# Altium integrated library Actel Fusion.IntLib: 336 symbols (part 64 of 72)
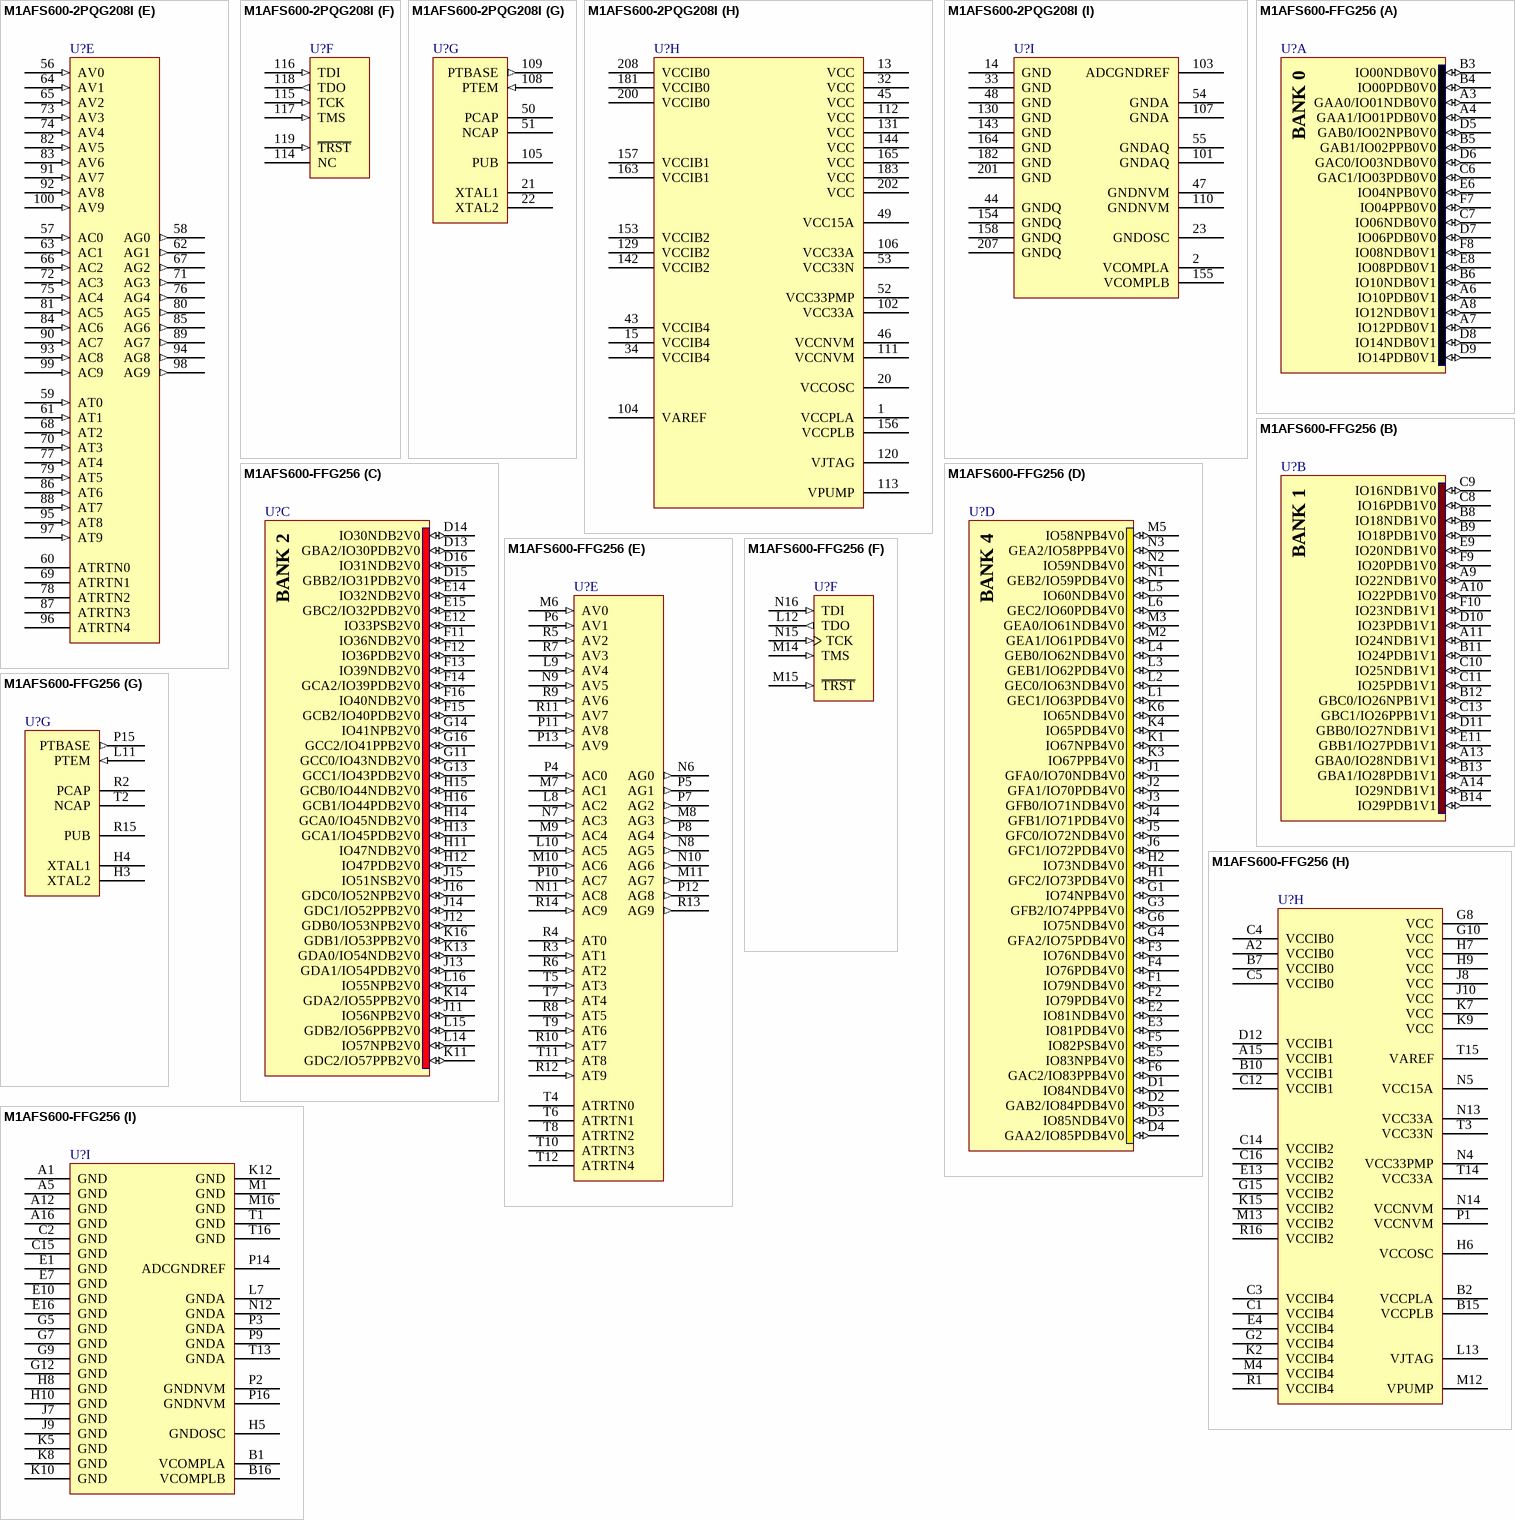
[diagram p431: symbols M1AFS600-2PQG208I to M1AFS600-FFG256]

## M1AFS600-FFG256
designator U?
ARM-Enabled 3.3V Fusion Mixed Signal Flash FPGA, 600,000 System Gates, 256-Pin FBGA, Commercial Grade; Published: 17-Aug-2007; LatestRevisionDate: 14-Dec-2007; LatestRevisionNote: Pin T14 renamed to "VCC33A".; DatasheetVersion: ver1.7, Oct-2008; PackageVersion: v11.0, Feb-2009; PackageReference: FG256; Publisher: Altium Limited; PackageDescription: 256-Ball Fine Pitch Plastic Ball Grid Array (FG256); Code_JEDEC: MO-192-DAF-1; ComponentLink1Description: Manufacturer Link; ComponentLink1URL: http://www.actel.com/products/fusion/; ComponentLink2Description: Datasheet; ComponentLink2URL: http://www.actel.com/documents/Fusion_DS.pdf; ComponentLink3Description: Packaging Specification; ComponentLink3URL: http://www.actel.com/documents/PckgMechDrwngs.pdf
footprint FG256 (BGA, 256-Leads, Body 17x17mm, Pitch 1mm)
3D model M1AFS600-FG256 (256-Ball Fine Pitch Plastic Ball Grid Array (FG256))
signal-integrity model M7AFS600_FG256 (Fusion)
part A pins: A3 GAA0/IO01NDB0V0 (io), A4 GAA1/IO01PDB0V0 (io), A6 IO10PDB0V1 (io), A7 IO12PDB0V1 (io), A8 IO12NDB0V1 (io), B3 IO00NDB0V0 (io), B4 IO00PDB0V0 (io), B5 GAB1/IO02PPB0V0 (io), B6 IO10NDB0V1 (io), C6 GAC1/IO03PDB0V0 (io), C7 IO06NDB0V0 (io), D5 GAB0/IO02NPB0V0 (io), D6 GAC0/IO03NDB0V0 (io), D7 IO06PDB0V0 (io), D8 IO14NDB0V1 (io), D9 IO14PDB0V1 (io), E6 IO04NPB0V0 (io), E8 IO08PDB0V1 (io), F7 IO04PPB0V0 (io), F8 IO08NDB0V1 (io)
part B pins: A9 IO22NDB1V0 (io), A10 IO22PDB1V0 (io), A11 IO24NDB1V1 (io), A13 GBA0/IO28NDB1V1 (io), A14 IO29NDB1V1 (io), B8 IO18NDB1V0 (io), B9 IO18PDB1V0 (io), B11 IO24PDB1V1 (io), B12 GBC0/IO26NPB1V1 (io), B13 GBA1/IO28PDB1V1 (io), B14 IO29PDB1V1 (io), C8 IO16PDB1V0 (io), C9 IO16NDB1V0 (io), C10 IO25NDB1V1 (io), C11 IO25PDB1V1 (io), C13 GBC1/IO26PPB1V1 (io), D10 IO23PDB1V1 (io), D11 GBB0/IO27NDB1V1 (io), E9 IO20NDB1V0 (io), E11 GBB1/IO27PDB1V1 (io), F9 IO20PDB1V0 (io), F10 IO23NDB1V1 (io)
part C pins: D13 GBA2/IO30PDB2V0 (io), D14 IO30NDB2V0 (io), D15 GBB2/IO31PDB2V0 (io), D16 IO31NDB2V0 (io), E12 IO33PSB2V0 (io), E14 IO32NDB2V0 (io), E15 GBC2/IO32PDB2V0 (io), F11 IO36NDB2V0 (io), F12 IO36PDB2V0 (io), F13 IO39NDB2V0 (io), F14 GCA2/IO39PDB2V0 (io), F15 GCB2/IO40PDB2V0 (io), F16 IO40NDB2V0 (io), G11 GCC0/IO43NDB2V0 (io), G13 GCC1/IO43PDB2V0 (io), G14 IO41NPB2V0 (io), G16 GCC2/IO41PPB2V0 (io), H11 IO47NDB2V0 (io), H12 IO47PDB2V0 (io), H13 GCA1/IO45PDB2V0 (io), H14 GCA0/IO45NDB2V0 (io), H15 GCB0/IO44NDB2V0 (io), H16 GCB1/IO44PDB2V0 (io), J11 IO56NPB2V0 (io), J12 GDB0/IO53NPB2V0 (io), J13 GDA1/IO54PDB2V0 (io), J14 GDC1/IO52PPB2V0 (io), J15 IO51NSB2V0 (io), J16 GDC0/IO52NPB2V0 (io), K11 GDC2/IO57PPB2V0 (io), K13 GDA0/IO54NDB2V0 (io), K14 GDA2/IO55PPB2V0 (io), K16 GDB1/IO53PPB2V0 (io), L14 IO57NPB2V0 (io), L15 GDB2/IO56PPB2V0 (io), L16 IO55NPB2V0 (io)
part D pins: D1 IO84NDB4V0 (io), D2 GAB2/IO84PDB4V0 (io), D3 IO85NDB4V0 (io), D4 GAA2/IO85PDB4V0 (io), E2 IO81NDB4V0 (io), E3 IO81PDB4V0 (io), E5 IO83NPB4V0 (io), F1 IO79NDB4V0 (io), F2 IO79PDB4V0 (io), F3 IO76NDB4V0 (io), F4 IO76PDB4V0 (io), F5 IO82PSB4V0 (io), F6 GAC2/IO83PPB4V0 (io), G1 IO74NPB4V0 (io), G3 GFB2/IO74PPB4V0 (io), G4 GFA2/IO75PDB4V0 (io), G6 IO75NDB4V0 (io), H1 GFC2/IO73PDB4V0 (io), H2 IO73NDB4V0 (io), J1 GFA0/IO70NDB4V0 (io), J2 GFA1/IO70PDB4V0 (io), J3 GFB0/IO71NDB4V0 (io), J4 GFB1/IO71PDB4V0 (io), J5 GFC0/IO72NDB4V0 (io), J6 GFC1/IO72PDB4V0 (io), K1 IO67NPB4V0 (io), K3 IO67PPB4V0 (io), K4 IO65PDB4V0 (io), K6 IO65NDB4V0 (io), L1 GEC1/IO63PDB4V0 (io), L2 GEC0/IO63NDB4V0 (io), L3 GEB1/IO62PDB4V0 (io), L4 GEB0/IO62NDB4V0 (io), L5 IO60NDB4V0 (io), L6 GEC2/IO60PDB4V0 (io), M2 GEA1/IO61PDB4V0 (io), M3 GEA0/IO61NDB4V0 (io), M5 IO58NPB4V0 (io), N1 GEB2/IO59PDB4V0 (io), N2 IO59NDB4V0 (io), N3 GEA2/IO58PPB4V0 (io)
part E pins: L8 AC2 (in) "Analog current pad 2.", L9 AV4 (in) "Analog voltage pad 4.", L10 AC5 (in) "Analog current pad 5.", M6 AV0 (in) "Analog voltage pad 0.", M7 AC1 (in) "Analog current pad 1.", M8 AG3 (out) "Analog gate driver pad 3.", M9 AC4 (in) "Analog current pad 4.", M10 AC6 (in) "Analog current pad 6.", M11 AG7 (out) "Analog gate driver pad 7.", N6 AG0 (out) "Analog gate driver pad 0.", N7 AC3 (in) "Analog current pad 3.", N8 AG5 (out) "Analog gate driver pad 5.", N9 AV5 (in) "Analog voltage pad 5.", N10 AG6 (out) "Analog gate driver pad 6.", N11 AC8 (in) "Analog current pad 8.", P4 AC0 (in) "Analog current pad 0.", P5 AG1 (out) "Analog gate driver pad 1.", P6 AV1 (in) "Analog voltage pad 1.", P7 AG2 (out) "Analog gate driver pad 2.", P8 AG4 (out) "Analog gate driver pad 4.", P10 AC7 (in) "Analog current pad 7.", P11 AV8 (in) "Analog voltage pad 8.", P12 AG8 (out) "Analog gate driver pad 8.", P13 AV9 (in) "Analog voltage pad 9.", R3 AT1 (in) "Analog temperature pad 1.", R4 AT0 (in) "Analog temperature pad 0.", R5 AV2 (in) "Analog voltage pad 2.", R6 AT2 (in) "Analog temperature pad 2.", R7 AV3 (in) "Analog voltage pad 3.", R8 AT5 (in) "Analog temperature pad 5.", R9 AV6 (in) "Analog voltage pad 6.", R10 AT7 (in) "Analog temperature pad 7.", R11 AV7 (in) "Analog voltage pad 7.", R12 AT9 (in) "Analog temperature pad 9.", R13 AG9 (out) "Analog gate driver pad 9.", R14 AC9 (in) "Analog current pad 9.", T4 ATRTN0 "Temperature monitor return 0.", T5 AT3 (in) "Analog temperature pad 3.", T6 ATRTN1 "Temperature monitor return 1.", T7 AT4 (in) "Analog temperature pad 4.", T8 ATRTN2 "Temperature monitor return 2.", T9 AT6 (in) "Analog temperature pad 6.", T10 ATRTN3 "Temperature monitor return 3.", T11 AT8 (in) "Analog temperature pad 8.", T12 ATRTN4 "Temperature monitor return 4."
part F pins: L12 TDO (out), M14 TMS (in), M15 ~{TRST} (in), N15 TCK (in), N16 TDI (in)
part G pins: H3 XTAL2 "Input to crystal oscillator - If using external RC network or clock input, XTAL1 should be used and XTAL2 left unconnected.", H4 XTAL1 "Input to crystal oscillator - If using external RC network or clock input, XTAL1 should be used and XTAL2 left unconnected.", L11 PTEM (in) "PASS TRANSISTOR EMITTER - The feedback input of the voltage regulator.", P15 PTBASE (out) "PASS TRANSISTOR BASE - The control signal of the voltage regulator.", R2 PCAP "POSITIVE CAPACITOR - where the positive terminal of the charge pump capacitor is connected.", R15 PUB "Power up bar - for the external momentary switch which turns on the 1.5V regulator.", T2 NCAP "NEGATIVE CAPACITOR - where the negative terminal of the charge pump capacitor is connected."
part H pins: A2 VCCIB0 (power), A15 VCCIB1 (power), B2 VCCPLA (power), B7 VCCIB0 (power), B10 VCCIB1 (power), B15 VCCPLB (power), C1 VCCIB4 (power), C3 VCCIB4 (power) "Quiet supply voltage to the input buffers of bank 4.", C4 VCCIB0 (power) "Quiet supply voltage to the input buffers of bank 0.", C5 VCCIB0 (power), C12 VCCIB1 (power), C14 VCCIB2 (power) "Quiet supply voltage to the input buffers of bank 2.", C16 VCCIB2 (power), D12 VCCIB1 (power) "Quiet supply voltage to the input buffers of bank 1.", E4 VCCIB4 (power), E13 VCCIB2 (power), G2 VCCIB4 (power), G8 VCC (power), G10 VCC (power), G15 VCCIB2 (power), H6 VCCOSC (power), H7 VCC (power), H9 VCC (power), J8 VCC (power), J10 VCC (power), K2 VCCIB4 (power), K7 VCC (power), K9 VCC (power), K15 VCCIB2 (power), L13 VJTAG (power), M4 VCCIB4 (power), M12 VPUMP (power), M13 VCCIB2 (power), N4 VCC33PMP (power) "3.3V clean analog power supply input for use by the analog charge pump.", N5 VCC15A (power), N13 VCC33A (power), N14 VCCNVM (power) "1.5V power supply used by the Fusion device's Flash memory block module(s).", P1 VCCNVM (power) "1.5V power supply used by the Fusion device's Flash memory block module(s).", R1 VCCIB4 (power), R16 VCCIB2 (power), T3 VCC33N (power) "-3.3V output from the voltage converter. A 2.2µF capacitor must be connected from this pin to ground.", T14 VCC33A (power) "Analog power pin for the analog power supply low pass filter. An external 1µF capacitor should be connected between this pin and ground.", T15 VAREF (power) "Analog reference voltage to be used by analog to digital converter."
part I pins: A1 GND (power), A5 GND (power), A12 GND (power), A16 GND (power), B1 VCOMPLA (power), B16 VCOMPLB (power), C2 GND (power), C15 GND (power), E1 GND (power), E7 GND (power), E10 GND (power), E16 GND (power), G5 GND (power), G7 GND (power), G9 GND (power), G12 GND (power), H5 GNDOSC (power) "Oscillator ground.", H8 GND (power), H10 GND (power), J7 GND (power), J9 GND (power), K5 GND (power), K8 GND (power), K10 GND (power), K12 GND (power), L7 GNDA (power), M1 GND (power), M16 GND (power), N12 GNDA (power), P2 GNDNVM (power) "Flash memory ground.", P3 GNDA (power), P9 GNDA (power), P14 ADCGNDREF (power) "Analog ground reference used by the ADC.", P16 GNDNVM (power) "Flash memory ground.", T1 GND (power), T13 GNDA (power), T16 GND (power)
part A text: BANK 0
part B text: BANK 1
part C text: BANK 2
part D text: BANK 4

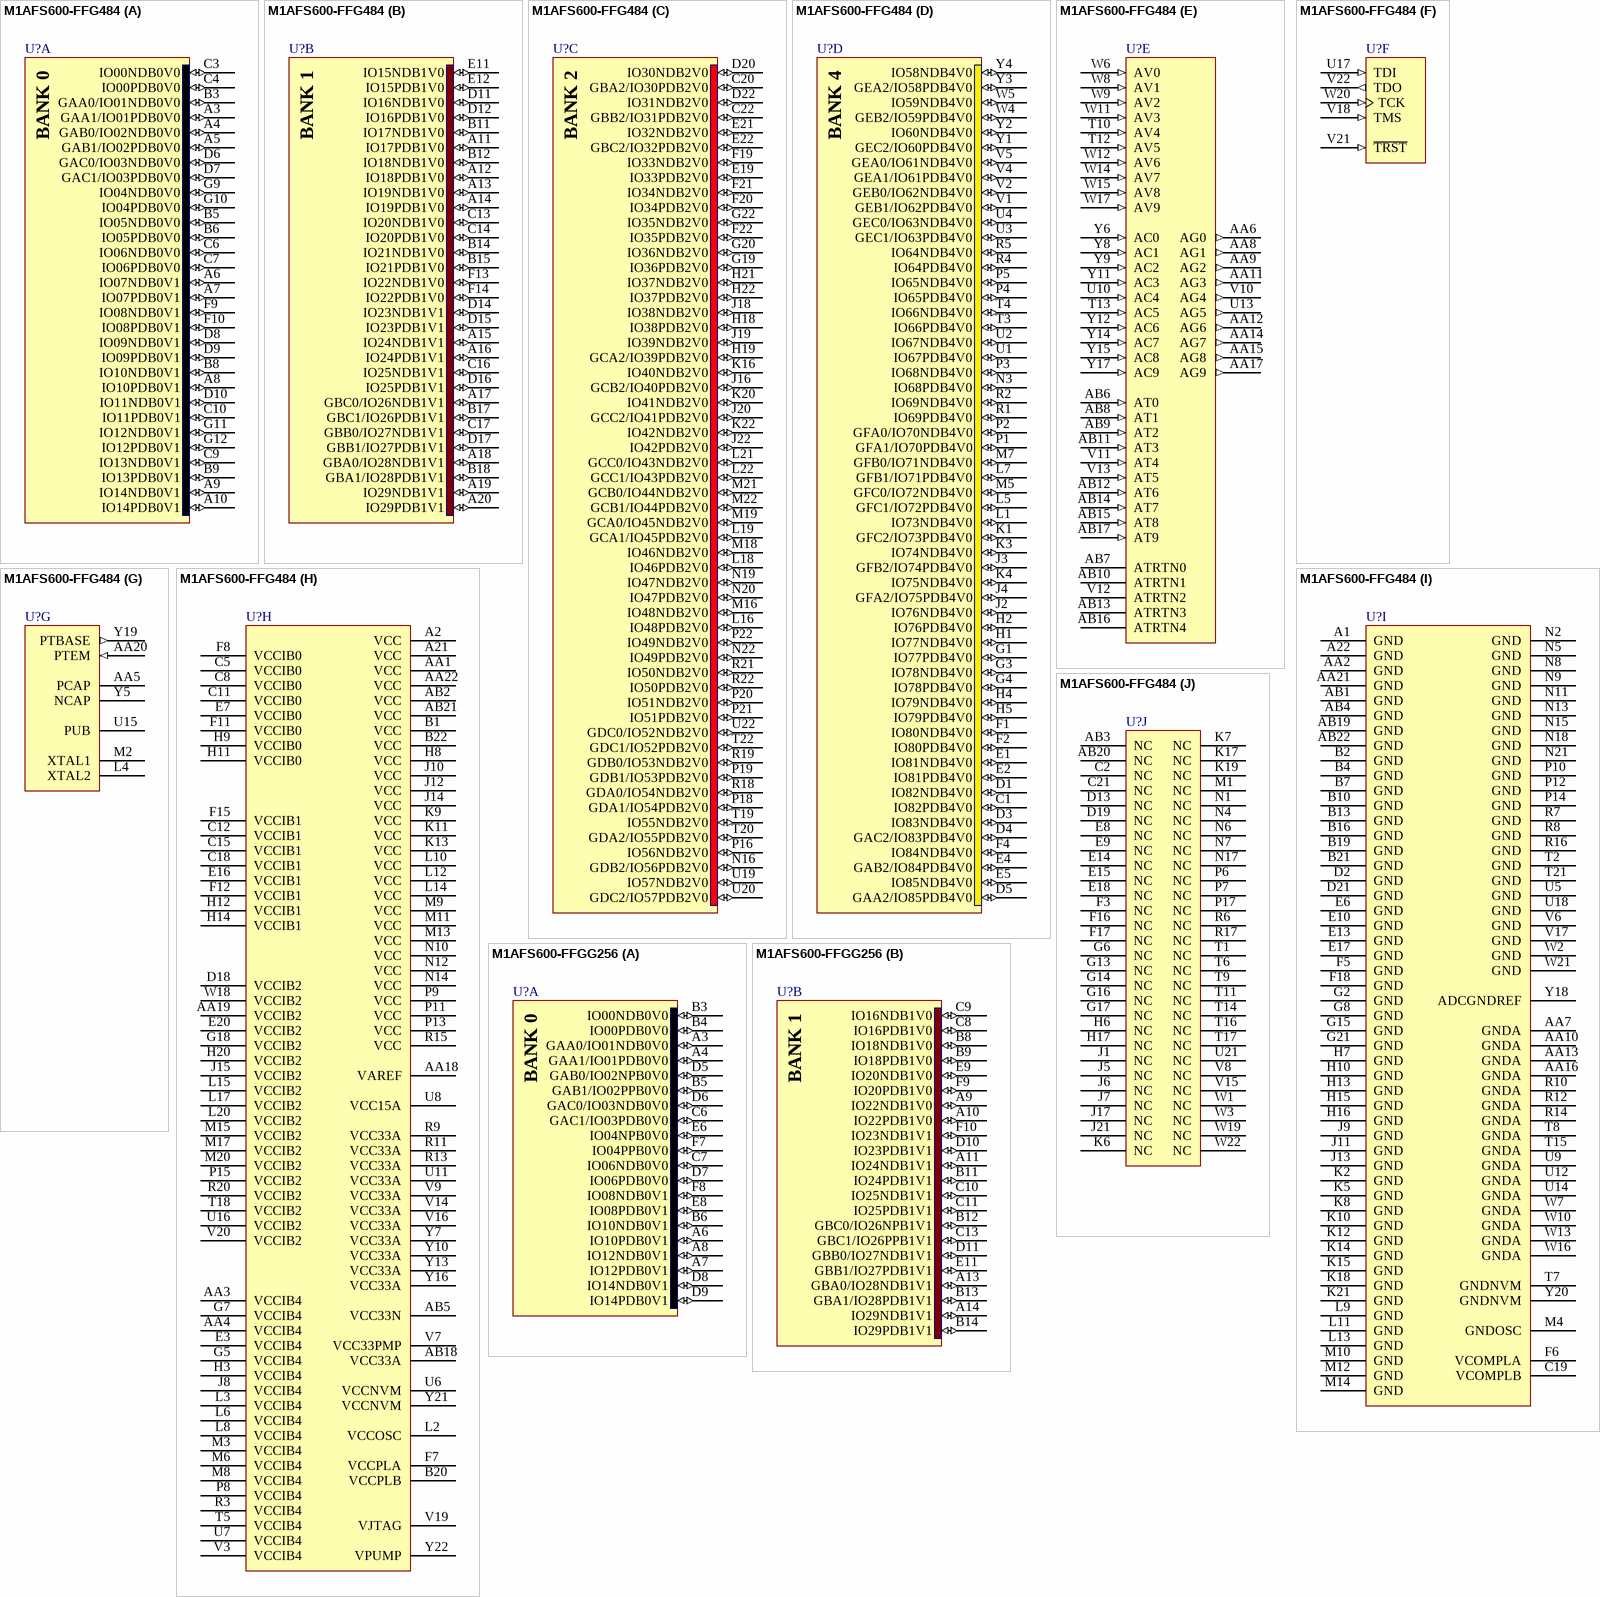
[diagram p192: symbols M1AFS600-FFG484 to M1AFS600-FFGG256]